# Altium integrated library Inductor.IntLib: 1 symbol
Pins are listed as number, name and electrical type; pins without a type are passive.

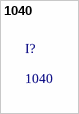
[diagram p0: symbol 1040]

## 1040
designator I?